# EAGLE library part LM4670ITL_NOPB (library LM4670ITL_NOPB)
Filterless High Efficiency 3W Switching Audio Amplifier Source: Datasheet <http://www.ti.com/lit/gpn/lm4670>
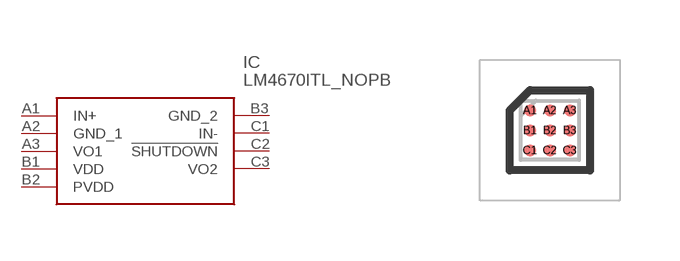
[diagram p0: symbol with the pads of BGA9C50P3X3_146X148X68; footprint BGA9C50P3X3_146X148X68]

Designator prefix IC

## LM4670ITL_NOPB (Arrow_Part_Number: LM4670ITL/NOPB; Arrow_Price-Stock: https://www.arrow.com/en/products/lm4670itlnopb/texas-instruments; Description: Filterless High Efficiency 3W Switching Audio Amplifier; Height: 0.675mm; Manufacturer_Name: Texas Instruments; Manufacturer_Part_Number: LM4670ITL/NOPB; Mouser_Part_Number: 595-LM4670ITL/NOPB; Mouser_Price-Stock: https://www.mouser.co.uk/ProductDetail/Texas-Instruments/LM4670ITL-NOPB?qs=2k4gZbgf%2F9nVYKjbIJpyZw%3D%3D)  [BGA9C50P3X3_146X148X68]
A1  IN+
A2  GND_1
A3  VO1
B1  VDD
B2  PVDD
B3  GND_2
C1  IN-
C2  !SHUTDOWN
C3  VO2

## Footprint BGA9C50P3X3_146X148X68 (pad centres in mm)
YZR0009__2021
smd 0.306 x 0.306: A1 -0.5,0.5; A2 0,0.5; A3 0.5,0.5; B1 -0.5,0; B2 0,0; B3 0.5,0; C1 -0.5,-0.5; C2 0,-0.5; C3 0.5,-0.5